# EAGLE library part DUAL-BUFFER-OD-NC7WZ07 (library components)
NC7WZ07 Dual Buffer with OD outputs and 5V tolerant inputs
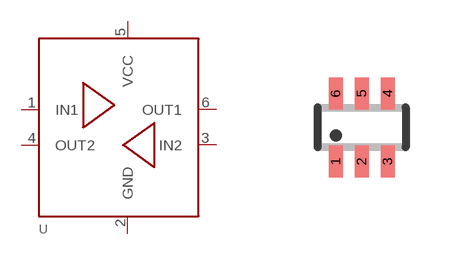
[diagram p37: symbol with the pads of SC70-6L; footprint SC70-6L]

Designator prefix U

## DUAL-BUFFER-OD-NC7WZ07 (DESCRIPTION: Dual open drain buffers; DIGIKEY-PN: NC7WZ07P6XCT-ND; FOOTPRINT: SO70-6)  [SC70-6L]
1  IN1
2  GND
3  IN2
4  OUT2
5  VCC
6  OUT1

## Footprint SC70-6L (pad centres in mm)
SC-70 Package
smd 0.35 x 0.8: 1 -0.65,-0.85; 2 0,-0.85; 3 0.65,-0.85; 4 0.65,0.85; 5 0,0.85; 6 -0.65,0.85